# Altium footprint library Z02W22VY.PcbLib: 1 footprints
Each footprint in its own frame and in the unit in brackets; x right, y up, seen from the top. Pads: shape width x height; smd on the part's side, far side on the other; paste and mask are expansions set on the pad; w line width, h text height; cw(c..) or ccw(c..) is an arc to the next point about the centre after c.
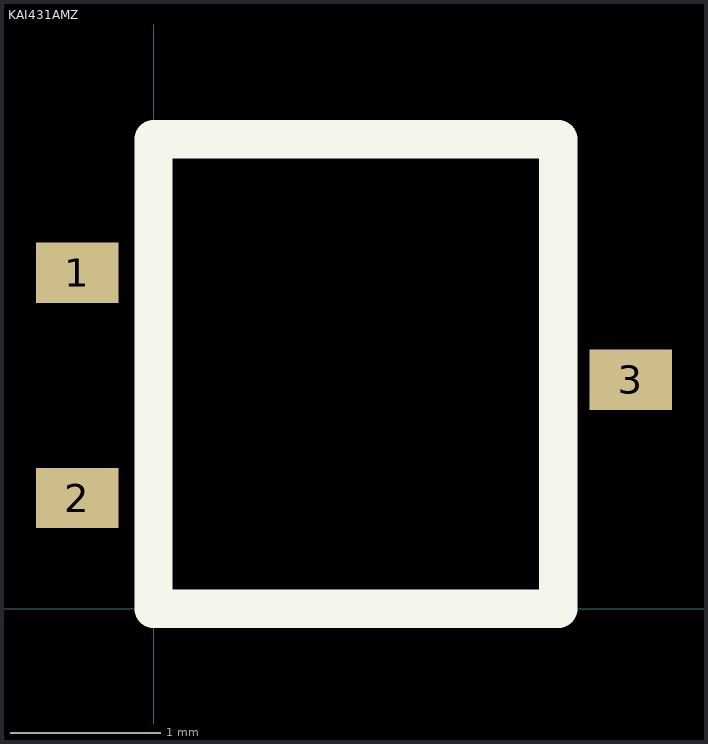
[diagram p0: the footprint, top view; thin cyan lines are the x and y axes]

## KAI431AMZ [mm]
pads (3):
  rect 0.55x0.4 smd: 1(-0.508,2.235) 2(-0.508,0.737) 3(3.175,1.524)
Top Overlay:
  lines w0.254: 0,0 2.692,0 2.692,3.124 0,3.124 0,0
3D body: height 1, standoff 0, extent 0.127,0.127 2.565,2.997